# Altium schematic symbol library MCU.SchLib: 3 symbols
Pins are listed as number, name and electrical type; pins without a type are passive.

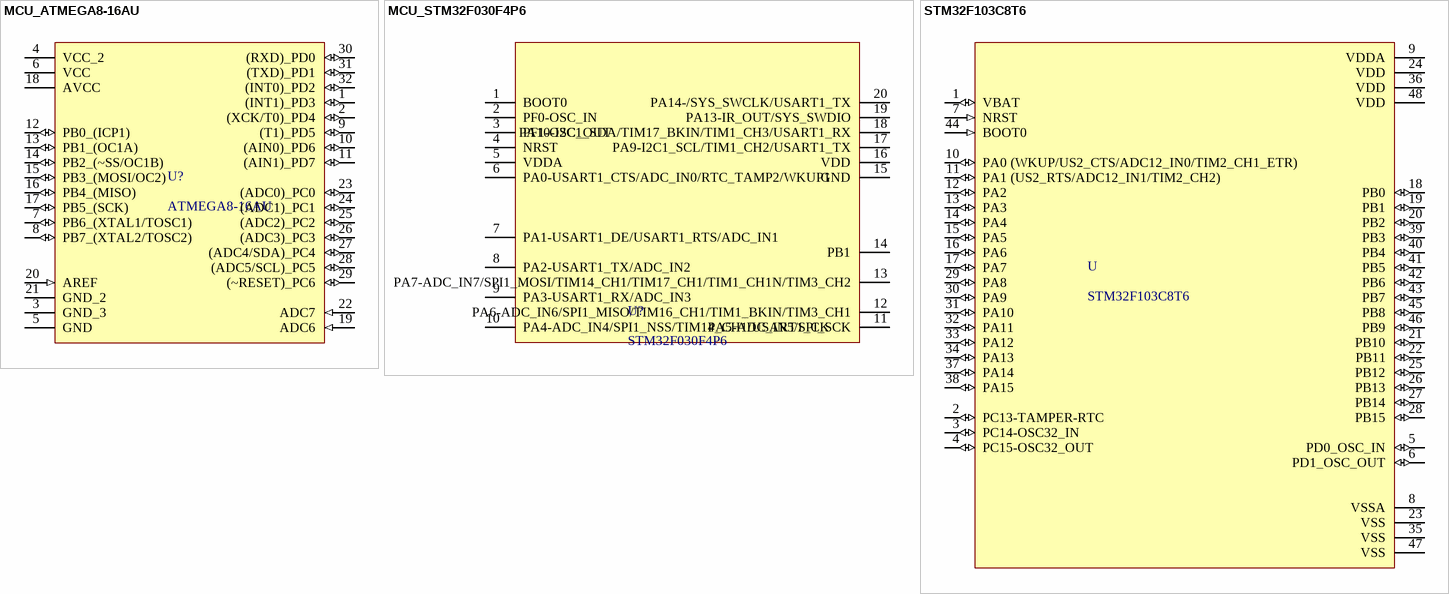
[diagram p0: symbols MCU_ATMEGA8-16AU to STM32F103C8T6]

## MCU_ATMEGA8-16AU
designator U?, comment ATMEGA8-16AU
AVR AVRÂ® ATmega Microcontroller IC 8-Bit 16MHz 8KB _4K x 16_ FLASH 32-TQFP _7x7_; MF: Microchip Technology; Package: TQFP-32 Microchip Technology; Value: *; Price: None; MP: ATMEGA8-16AU; SnapEDA_Link: https://www.snapeda.com/parts/ATMEGA8-16AU/Microchip/view-part/4246640/?ref=snap; Availability: Unavailable
footprint TQFP_32 (QFP; 32 Leads; Body 7 x 7 mm; Pitch 0.8 mm)
pins: 1 (INT1)_PD3 (io), 2 (XCK/T0)_PD4 (io), 3 GND_3, 4 VCC_2 (power), 5 GND, 6 VCC (power), 7 PB6_(XTAL1/TOSC1) (io), 8 PB7_(XTAL2/TOSC2) (io), 9 (T1)_PD5 (io), 10 (AIN0)_PD6 (io), 11 (AIN1)_PD7 (io), 12 PB0_(ICP1) (io), 13 PB1_(OC1A) (io), 14 PB2_(~SS/OC1B) (io), 15 PB3_(MOSI/OC2) (io), 16 PB4_(MISO) (io), 17 PB5_(SCK) (io), 18 AVCC (power), 19 ADC6 (in), 20 AREF (in), 21 GND_2, 22 ADC7 (in), 23 (ADC0)_PC0 (io), 24 (ADC1)_PC1 (io), 25 (ADC2)_PC2 (io), 26 (ADC3)_PC3 (io), 27 (ADC4/SDA)_PC4 (io), 28 (ADC5/SCL)_PC5 (io), 29 (~RESET)_PC6 (io), 30 (RXD)_PD0 (io), 31 (TXD)_PD1 (io), 32 (INT0)_PD2 (io)

## MCU_STM32F030F4P6
designator U?, comment STM32F030F4P6
Микроконтроллер 32-Бит, Cortex-M0, 48МГц, 16КБ Flash; MF: Microchip Technology; MP: ATMEGA8-16AU; Package: TQFP-32 Microchip Technology; Value: *; Price: None; SnapEDA_Link: https://www.snapeda.com/parts/ATMEGA8-16AU/Microchip/view-part/4246640/?ref=snap; Availability: Unavailable
footprint TSSOP_20 (TSSOP, 20-Leads, Body 6,50x4,40mm, Pitch 0,65mm, IPC Medium Density)
pins: 1 BOOT0, 2 PF0-OSC_IN, 3 PF1-OSC_OUT, 4 NRST (power), 5 VDDA, 6 PA0-USART1_CTS/ADC_IN0/RTC_TAMP2/WKUP1 (power), 7 PA1-USART1_DE/USART1_RTS/ADC_IN1, 8 PA2-USART1_TX/ADC_IN2, 9 PA3-USART1_RX/ADC_IN3, 10 PA4-ADC_IN4/SPI1_NSS/TIM14_CH1/USART1_CK, 11 PA5-ADC_IN5/SPI_SCK, 12 PA6-ADC_IN6/SPI1_MISO/TIM16_CH1/TIM1_BKIN/TIM3_CH1, 13 PA7-ADC_IN7/SPI1_MOSI/TIM14_CH1/TIM17_CH1/TIM1_CH1N/TIM3_CH2, 14 PB1 "ADC_IN9/TIM14_CH1/TIM1_CH3N/TIM3_CH4", 15 GND, 16 VDD, 17 PA9-I2C1_SCL/TIM1_CH2/USART1_TX (power), 18 PA10-I2C1_SDA/TIM17_BKIN/TIM1_CH3/USART1_RX (power), 19 PA13-IR_OUT/SYS_SWDIO, 20 PA14-/SYS_SWCLK/USART1_TX

## STM32F103C8T6
designator U
Микроконтроллер 32-Бит, Cortex-M3, 72МГц, 64КБ Flash, USB, CAN; MF: STMicroelectronics; Price(CD): 140; Package: LQFP-48 STMicroelectronics; Value: *; MP: STM32F103C8T6; Availability: Unavailable; Price(AE): 82
footprint LQFP_48
pins: 1 VBAT (io), 2 PC13-TAMPER-RTC (io), 3 PC14-OSC32_IN (io), 4 PC15-OSC32_OUT (io), 5 PD0_OSC_IN (io), 6 PD1_OSC_OUT (io), 7 NRST (in), 8 VSSA (power), 9 VDDA (power), 10 PA0 (WKUP/US2_CTS/ADC12_IN0/TIM2_CH1_ETR) (io), 11 PA1 (US2_RTS/ADC12_IN1/TIM2_CH2) (io), 12 PA2 (io), 13 PA3 (io), 14 PA4 (io), 15 PA5 (io), 16 PA6 (io), 17 PA7 (io), 18 PB0 (io), 19 PB1 (io), 20 PB2 (io), 21 PB10 (io), 22 PB11 (io), 23 VSS (power), 24 VDD (power), 25 PB12 (io), 26 PB13 (io), 27 PB14 (io), 28 PB15 (io), 29 PA8 (io), 30 PA9 (io), 31 PA10 (io), 32 PA11 (io), 33 PA12 (io), 34 PA13 (io), 35 VSS (power), 36 VDD (power), 37 PA14 (io), 38 PA15 (io), 39 PB3 (io), 40 PB4 (io), 41 PB5 (io), 42 PB6 (io), 43 PB7 (io), 44 BOOT0 (in), 45 PB8 (io), 46 PB9 (io), 47 VSS (power), 48 VDD (power)